# Altium footprint library ES_Pcb.PcbLib: 383 footprints (part 13 of 24)
Each footprint in its own frame and in the unit in brackets; x right, y up, seen from the top. Pads: shape width x height; smd on the part's side, far side on the other; paste and mask are expansions set on the pad; w line width, h text height; cw(c..) or ccw(c..) is an arc to the next point about the centre after c.
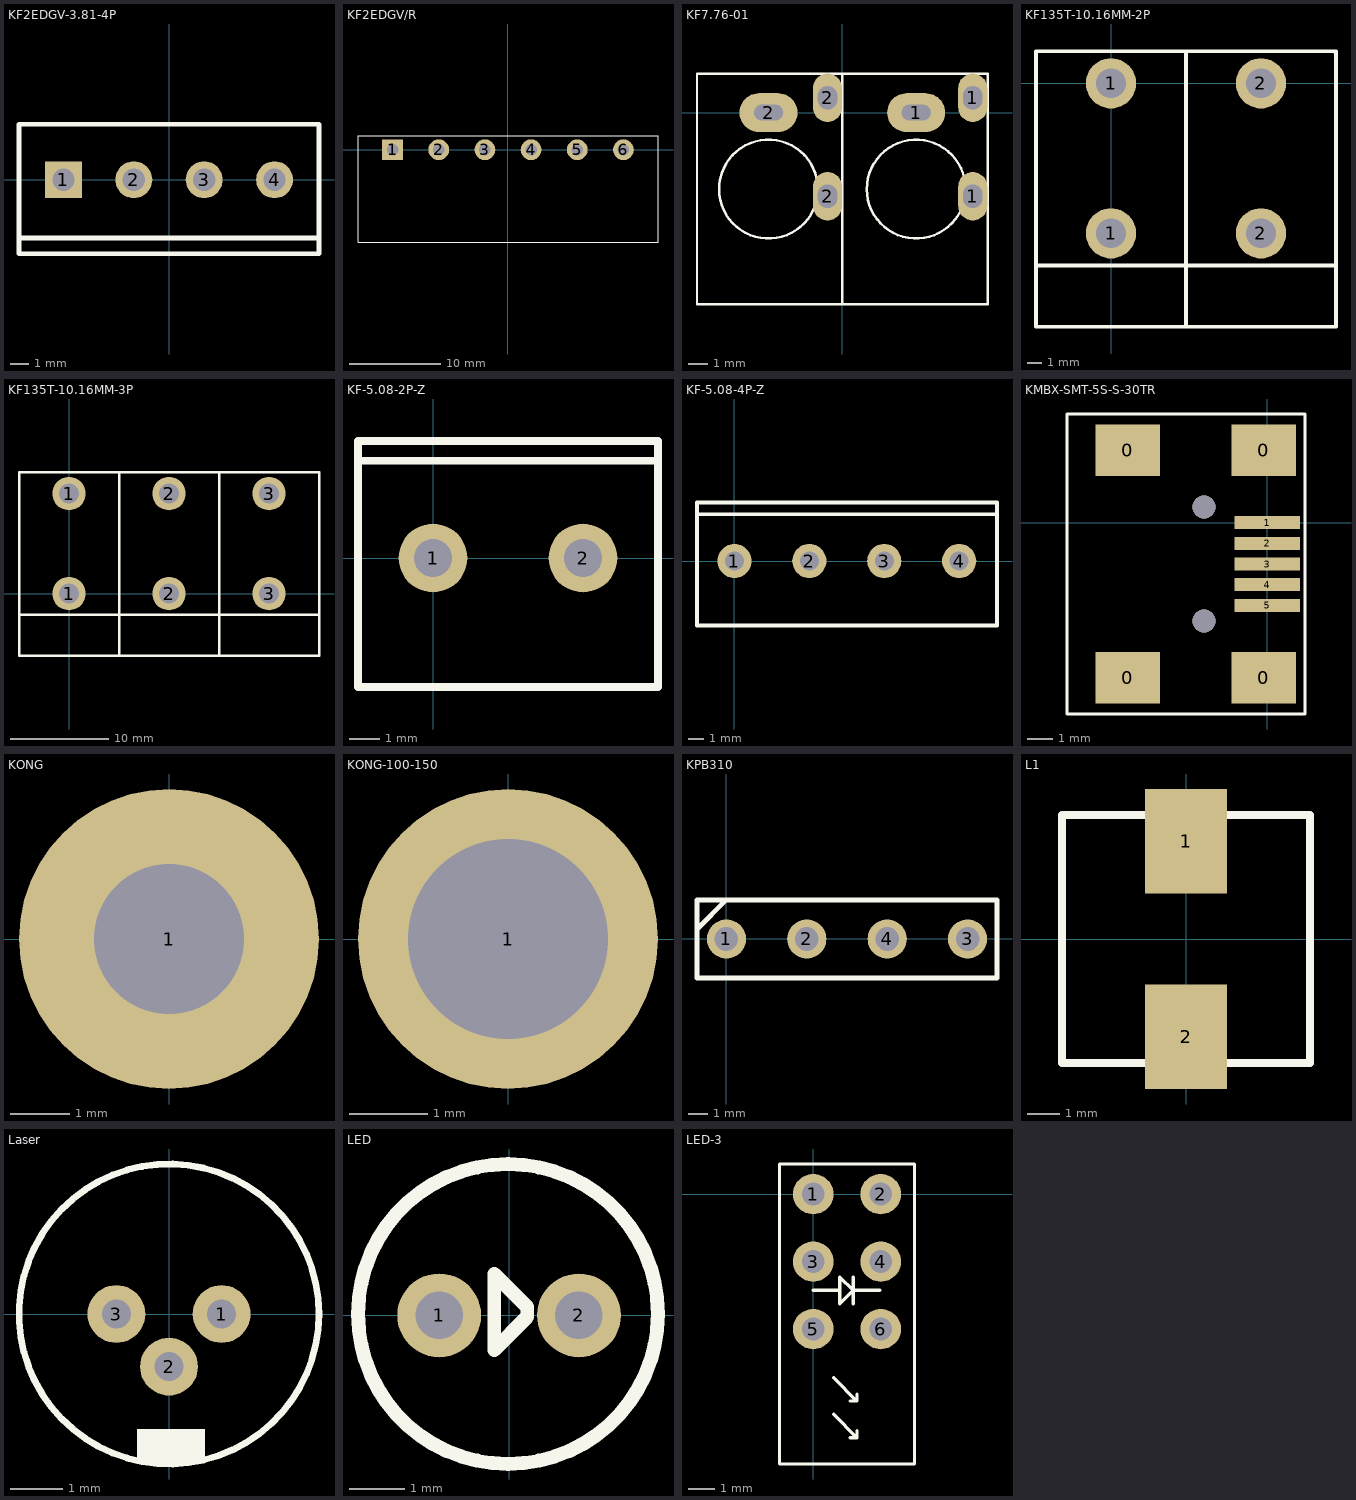
[diagram p12: the footprints below, top view; thin cyan lines are the x and y axes]

## KF2EDGV-3.81-4P [mm]
pads (4):
  rect 2x2 hole 1.2: 1(-5.715,0)
  round 2 hole 1.2: 2(-1.905,0) 3(1.905,0) 4(5.715,0)
Top Overlay:
  lines w0.254: -8.12,-3.15 8.052,-3.15 8.077,-3.124 ; -8.12,-4 8.12,-4 8.12,3 -8.12,3 -8.12,-4

## KF2EDGV/R [mil]
pads (6):
  rect 90x90 hole 50: 1(-500,0)
  round 90 hole 50: 2(-300,0) 3(-100,0) 4(100,0) 5(300,0) 6(500,0)
Top Overlay:
  lines w5: -650,-400 -650,60 650,60 650,-400 -650,-400

## KF7.76-01 [mm]
pads (6):
  oval 3x2 hole 0.8 slot 1.5 at 0 deg: 1(3.81,0) 2(-3.81,0)
  oval 1.5x2.5 hole 1 slot 1.2 at 90 deg: 1(6.731,-4.318) 1(6.731,0.762) 2(-0.762,-4.318) 2(-0.762,0.762)
Top Overlay:
  circle w0.127: c3.81,-3.95 r2.55
  circle w0.127: c-3.81,-3.95 r2.55
  lines w0.127: 0,-9.9 0,2 ; -7.5,-9.9 -7.5,2 7.5,2 7.5,-9.9 -7.5,-9.9

## KF135T-10.16MM-2P [mm]
pads (4):
  round 3.4 hole 2: 1(0,-10.16) 1(0,0) 2(10.16,-10.16) 2(10.16,0)
Top Overlay:
  lines w0.254: -5.08,-12.33 15.24,-12.33 ; 5.055,2.145 5.08,2.119 5.08,-12.41 ; 5.08,-16.48 5.08,-12.33 ; 15.215,2.094 15.24,2.068 15.24,-12.305 15.24,-16.455 ; 15.24,-16.48 -5.08,-16.48 -5.08,2.17 15.24,2.17

## KF135T-10.16MM-3P [mm]
pads (6):
  round 3.4 hole 2: 1(0,0) 1(0,10.16) 2(10.16,0) 2(10.16,10.16) 3(20.32,0) 3(20.32,10.16)
Top Overlay:
  lines w0.254: -5.08,-2.17 25.4,-2.17 ; 5.055,12.305 5.08,12.279 5.08,-2.25 ; 5.08,-6.32 5.08,-2.17 ; 15.215,12.254 15.24,12.228 15.24,-2.145 15.24,-6.295 ; -5.08,-6.32 -5.08,12.33 25.4,12.33 25.4,-6.32 -5.08,-6.32

## KF-5.08-2P-Z [mil]
pads (2):
  round 90 hole 50: 1(0,0) 2(196.85,0)
Top Overlay:
  lines w10: -96.43,127.71 291.57,127.71 293.57,125.71 ; -98.43,-169.29 -98.43,153.54 295.28,153.54 295.28,-169.29 -98.43,-169.29

## KF-5.08-4P-Z [mil]
pads (4):
  round 90 hole 50: 1(0,0) 2(196.87,0) 3(393.72,0) 4(590.57,0)
Top Overlay:
  lines w10: -98.43,122.71 686.57,122.71 ; -98.43,-169.29 689.98,-169.29 689.98,153.54 -98.43,153.54 -98.43,-169.29

## KMBX-SMT-5S-S-30TR [mm]
pads (9):
  rect 2.5x2 smd: 0(-5.397,-6) 0(-5.397,2.8) 0(-0.147,-6) 0(-0.147,2.8)
  rect 2.54x0.5 smd: 1(0,0) 2(0,-0.8) 3(0,-1.6) 4(0,-2.4) 5(0,-3.2)
via -2.447,-3.8 diameter 0.9 hole 0.9
via -2.447,0.6 diameter 0.9 hole 0.9
Top Overlay:
  lines w0.127: -7.747,-7.4 1.453,-7.4 1.453,4.2 -7.747,4.2 -7.747,-7.4

## KONG [mm]
pads (1):
  round 5.08 hole 2.54: 1(0,0)

## KONG-100-150 [mm]
pads (1):
  round 3.81 hole 2.54: 1(0,0)

## KPB310 [mm]
pads (4):
  round 2 hole 1.2: 1(0,0) 2(4.1,0) 3(12.3,0) 4(8.2,0)
Top Overlay:
  lines w0.254: -1.5,0.4 -1.5,0.5 0,2 ; -1.5,-2 13.8,-2 13.8,2 13.4,2 9.4,2 -1.5,2 -1.5,-2

## L1 [mm]
pads (2):
  rect 2.5x3.2 smd: 1(0,3) 2(0,-3)
Top Overlay:
  lines w0.254: -3.8,-3.8 3.8,-3.8 3.8,3.8 -3.8,3.8 -3.8,-3.8

## Laser [mm]
pads (3):
  round 1.1 hole 0.55: 1(1,0) 2(0,-1) 3(-1,0)
Top Overlay:
  circle w0.127: c0,0 r2.85
  rectangle: -0.61,-2.819 0.686,-2.184

## LDW0735T-102 [mm]

## LED [mil]
pads (2):
  round 60 hole 34: 1(-50,0) 2(50,0)
Top Overlay:
  circle w10: c-0.79,0.98 r107.32
  lines w10: -10.63,-24.61 -10.63,29.53 12.99,5.91 12.99,-0.98 -10.63,-24.61

## LED-3 [mil]
pads (6):
  round 60 hole 34: 1(0,0) 2(100,0) 3(0,-100) 4(100,-100) 5(0,-200) 6(100,-200)
Top Overlay:
  lines w5: 0,-142.72 39.37,-142.72 ; 30.32,-326.38 64.76,-360.83 ; 30.32,-272.24 64.76,-306.69 ; 54.92,-360.83 64.76,-360.83 ; 54.92,-306.69 64.76,-306.69 ; 59.06,-162.4 59.06,-123.03 ; 64.76,-350.98 64.76,-360.83 ; 64.76,-296.85 64.76,-306.69 ; 98.43,-142.72 59.06,-142.72 ; 59.06,-142.72 39.37,-162.4 39.37,-123.03 59.06,-142.72 ; -50,-400 150,-400 150,44.69 -50,44.69 -50,-400